# Altium footprint library Разрядники.PcbLib: 1 footprints
Each footprint in its own frame and in the unit in brackets; x right, y up, seen from the top. Pads: shape width x height; smd on the part's side, far side on the other; paste and mask are expansions set on the pad; w line width, h text height; cw(c..) or ccw(c..) is an arc to the next point about the centre after c.
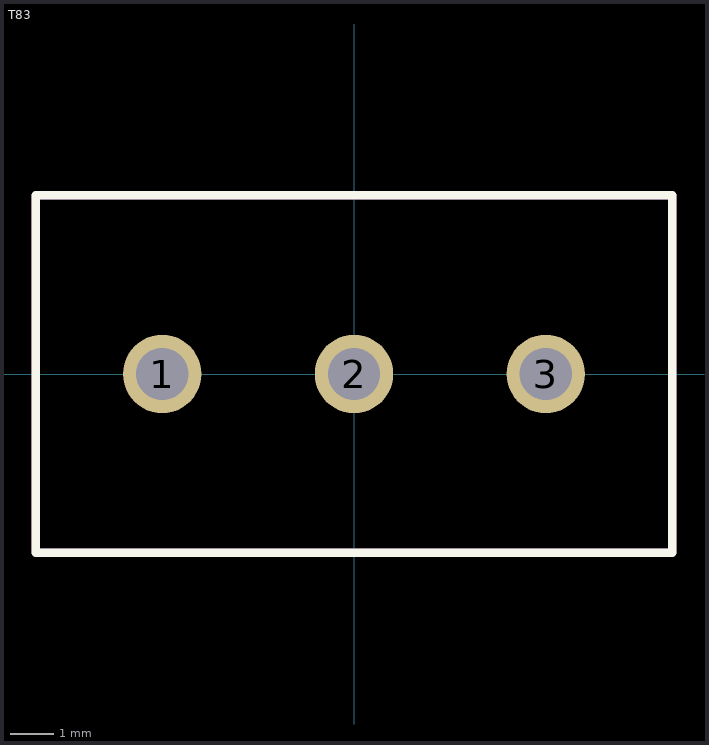
[diagram p0: the footprint, top view; thin cyan lines are the x and y axes]

## T83 [mm]
pads (3):
  round 1.8 hole 1.2: 1(-4.4,0) 2(0,0) 3(4.4,0)
Top Overlay:
  lines w0.2: -7.3,-4.1 7.3,-4.1 7.3,4.1 -7.3,4.1 -7.3,-4.1
TopAssy:
  lines w0.2: -7.3,-4.1 -7.3,4.1 7.3,4.1 7.3,-4.1 -7.3,-4.1
  text ".Designator" at -3.3,-0.5 h1.52
3D body "T83.step": height 11, standoff -4.1, extent -7.201,-4 7.202,4